# Altium footprint library 430450815.PcbLib: 1 footprints
Each footprint in its own frame and in the unit in brackets; x right, y up, seen from the top. Pads: shape width x height; smd on the part's side, far side on the other; paste and mask are expansions set on the pad; w line width, h text height; cw(c..) or ccw(c..) is an arc to the next point about the centre after c.
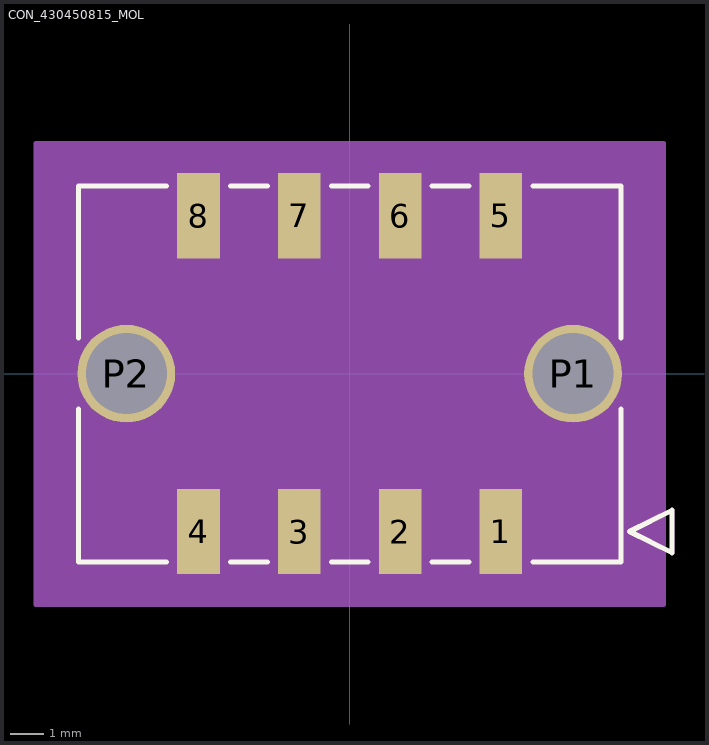
[diagram p0: the footprint, top view; thin cyan lines are the x and y axes]

## CON_430450815_MOL [mm]
pads (10):
  rect 1.27x2.54 smd paste+0 mask+0.076: 1(4.5,-4.7) 2(1.5,-4.7) 3(-1.5,-4.7) 4(-4.5,-4.7) 5(4.5,4.7) 6(1.5,4.7) 7(-1.5,4.7) 8(-4.5,4.7)
  round 2.91 / inner round 1.524 / far side round 2.91 hole 2.41 paste-1.455 mask+0.076: P1(6.65,0) P2(-6.65,0)
Top Overlay:
  lines w0.152: -8.075,-1.058 -8.075,-5.61 -5.455,-5.61 ; -8.075,1.058 -8.075,5.59 -5.455,5.59 ; -3.545,-5.61 -2.455,-5.61 ; -3.545,5.59 -2.455,5.59 ; -0.545,-5.61 0.545,-5.61 ; -0.545,5.59 0.545,5.59 ; 2.455,-5.61 3.545,-5.61 ; 2.455,5.59 3.545,5.59 ; 5.455,-5.61 8.075,-5.61 8.075,-1.058 ; 5.455,5.59 8.075,5.59 8.075,1.058 ; 8.329,-4.7 9.599,-5.335 9.599,-4.065 8.329,-4.7
Mechanical 13:
  lines w0.127: -8.075,-5.61 -8.075,5.59 8.075,5.59 8.075,-5.61 -8.075,-5.61 ; 8.329,-4.7 9.599,-5.335 9.599,-4.065 8.329,-4.7
Mechanical 15:
  region: 9.345,6.86 -9.345,6.86 -9.345,-6.88 9.345,-6.88
  lines w0.127: -9.345,-6.88 9.345,-6.88 9.345,6.86 -9.345,6.86 -9.345,-6.88
3D body "430450815.stp": height 9.95, standoff -2.01, extent -8.075,-5.608 8.075,5.588